# Altium schematic symbol library ComponantLib.SchLib: 10 symbols
Pins are listed as number, name and electrical type; pins without a type are passive.

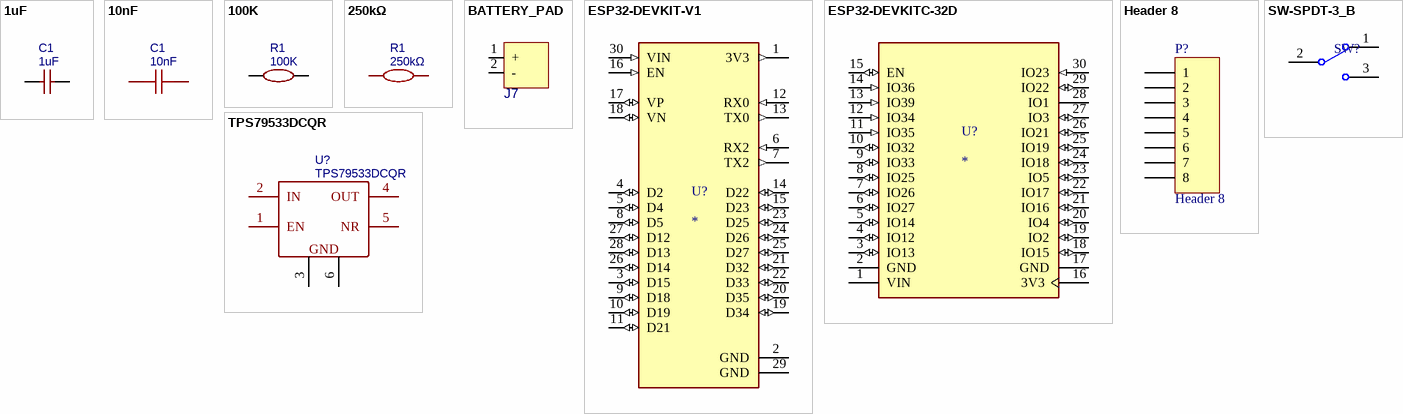
[diagram p0: symbols 1uF to TPS79533DCQR]

## 1uF
designator C1
BOM_Manufacturer: Walsin(华新科); BOM_Manufacturer Part: 0805F105Z160CT; nameAlias: Capacitance; Contributor: LCSC; BOM_Supplier: LCSC; BOM_Supplier Part: C123629; BOM_JLCPCB Part Class: Extended Part; spicePre: C; spiceSymbolName: 0805F105Z160
footprint 1uF ceramic cap
pins: 1, 2

## 10nF
designator C1
BOM_Manufacturer: Murata Electronics; BOM_Manufacturer Part: GCM216R71H103KA37D; nameAlias: Capacitance; Contributor: LCSC; BOM_Supplier: LCSC; BOM_Supplier Part: C388908; BOM_JLCPCB Part Class: Extended Part; spicePre: C; spiceSymbolName: GCM216R71H103KA37D
footprint 1nF cap
pins: 1, 2

## 100K
designator R1
BOM_Manufacturer: YAGEO(国巨); BOM_Manufacturer Part: RC0805FR-07100KL; nameAlias: Resistance (Ohms); Resistance: 100kΩ; BOM_Supplier: LCSC; BOM_Supplier Part: C96346; BOM_JLCPCB Part Class: Extended Part; spicePre: R; spiceSymbolName: RC0805FR-07100KL
footprint R100K
pins: 1, 2

## 250kΩ
designator R1
BOM_Manufacturer: Viking(光颉); BOM_Manufacturer Part: AR06BTC2503; Resistance (Ohms): 250K; nameAlias: Resistance; Contributor: LCSC; BOM_Supplier: LCSC; BOM_Supplier Part: C374782; BOM_JLCPCB Part Class: Extended Part; spicePre: R; spiceSymbolName: AR06BTC2503
footprint R250K
pins: 1, 2

## BATTERY_PAD
designator J7  (value not drawn)
Battery Connector; Manufacturer: ???; Part Number: *; Value: *; Voltage: *; Tolerance: *; ComponentLink1Description: Datasheet; Current Rating: *
footprint BATTERY_PAD
pins: 1 +, 2 -

## ESP32-DEVKIT-V1
designator U?
Dual core, Wi-Fi: 2.4 GHz up to 150 Mbits/s,BLE (Bluetooth Low Energy) and legacy Bluetooth, 32 bits, Up to 240 MHz; MP: ESP32-DEVKIT-V1; Value: *; Availability: Unavailable; Package: None; Price: None
footprint MODULE_ESP32_DEVKIT_V1
pins: 1 3V3 (out), 2 GND (power), 3 D15 (io), 4 D2 (io), 5 D4 (io), 6 RX2 (in), 7 TX2 (out), 8 D5 (io), 9 D18 (io), 10 D19 (io), 11 D21 (io), 12 RX0 (in), 13 TX0 (out), 14 D22 (io), 15 D23 (io), 16 EN (in), 17 VP (io), 18 VN (io), 19 D34 (io), 20 D35 (io), 21 D32 (io), 22 D33 (io), 23 D25 (io), 24 D26 (io), 25 D27 (io), 26 D14 (io), 27 D12 (io), 28 D13 (io), 29 GND (power), 30 VIN (in)

## ESP32-DEVKITC-32D
designator U?
Eval Board For Esp-Wroom-32; MP: ESP32-DEVKITC-32D; Package: None; Availability: Unavailable; Value: *; Price: None
footprint ESP32
pins: 1 VIN (power), 2 GND (power), 3 IO13 (io), 4 IO12 (io), 5 IO14 (io), 6 IO27 (io), 7 IO26 (io), 8 IO25 (io), 9 IO33 (io), 10 IO32 (io), 11 IO35 (in), 12 IO34 (in), 13 IO39 (in), 14 IO36 (in), 15 EN (io), 16 3V3 (power), 17 GND (power), 18 IO15 (io), 19 IO2 (io), 20 IO4 (io), 21 IO16 (io), 22 IO17 (io), 23 IO5 (io), 24 IO18 (io), 25 IO19 (io), 26 IO21 (io), 27 IO3 (io), 28 IO1 (power), 29 IO22 (io), 30 IO23 (in)

## Header 8
designator P?
Header, 8-Pin; LatestRevisionDate: 17-Jul-2002; LatestRevisionNote: Re-released for DXP Platform.; Publisher: Altium Limited
footprint HDR1X8 (Connector; Header; 8 Position)
pins: 1, 2, 3, 4, 5, 6, 7, 8

## SW-SPDT-3_B
designator SW?
Slide Switch, SPDT, 500 V, -20 to 70 degC, 3-Pin THD, RoHS, Bulk; Manufacturer: E-Switch; Voltage Rating (DC): 30V; Current Rating: 200mA; Operating Force: 250gf; Package Quantity: 1000; Contact Plating: Silver; Max Operating Temperature: 70°C; Min Operating Temperature: -20°C; Contact Material: Copper; Datasheet URL: https://www.e-switch.com/system/asset/product_line/data_sheet/119/EG.pdf; Contact Finish: Silver; Case/Package: EG1218; Voltage Rating (AC): 30V; Datasheet Version: Oct-15; Package Description: 3-Pin Through Hole Device, Body 11.6 x 4 mm, Pitch 2.5 mm; RoHS Compliant: True; Package Reference: EG1218; Manufacturer URL: http://www.e-switch.ch/en/; Throw Configuration: SPDT; Contact Current Rating: 200mA; Mounting Technology: TH; Packaging: Bulk; Pins: 3
footprint ESWI-EG1218_V (THD, 3-Leads, Body 11.6x4mm, Pitch 2.5mm)
pins: 1, 2 COM, 3

## TPS79533DCQR
designator U?
BOM_Manufacturer: TI; BOM_Supplier: LCSC; BOM_Manufacturer Part: TPS79533DCQR; BOM_Supplier Part: C28669; BOM_JLCPCB Part Class: Extended Part; spicePre: U; spiceSymbolName: TPS79533DCQR
footprint TPS79533DCQR
pins: 1 EN, 2 IN, 3 GND, 4 OUT, 5 NR, 6 GND